# Altium integrated library STM32G0B1KET6N.IntLib: 1 symbol
Pins are listed as number, name and electrical type; pins without a type are passive.

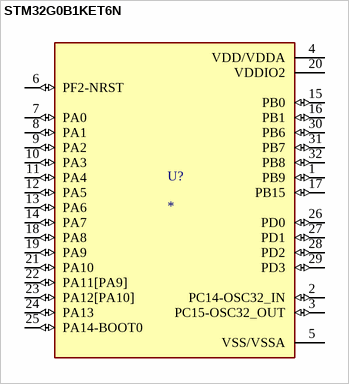
[diagram p0: symbol STM32G0B1KET6N]

## STM32G0B1KET6N
designator U?
ARMÂ® CortexÂ®-M0+ STM32G0 Microcontroller IC 32-Bit Single-Core 64MHz 512KB (512K x 8) FLASH 32-LQFP (7x7); MF: STMicroelectronics; MP: STM32G0B1KET6N; SnapEDA_Link: https://www.snapeda.com/parts/STM32G0B1KET6N/STMicroelectronics/view-part/?ref=snap; Package: None; Value: *; Check_prices: https://www.snapeda.com/parts/STM32G0B1KET6N/STMicroelectronics/view-part/?ref=eda
footprint QFP80P900X900X160-32N
pins: 1 PB9 (io), 2 PC14-OSC32_IN (io), 3 PC15-OSC32_OUT (io), 4 VDD/VDDA (power), 5 VSS/VSSA (power), 6 PF2-NRST (io), 7 PA0 (io), 8 PA1 (io), 9 PA2 (io), 10 PA3 (io), 11 PA4 (io), 12 PA5 (io), 13 PA6 (io), 14 PA7 (io), 15 PB0 (io), 16 PB1 (io), 17 PB15 (io), 18 PA8 (io), 19 PA9 (io), 20 VDDIO2 (power), 21 PA10 (io), 22 PA11[PA9] (io), 23 PA12[PA10] (io), 24 PA13 (io), 25 PA14-BOOT0 (io), 26 PD0 (io), 27 PD1 (io), 28 PD2 (io), 29 PD3 (io), 30 PB6 (io), 31 PB7 (io), 32 PB8 (io)